# EAGLE library part STM32F405 (library OSURC_DigitalIC)
Fast little Cortex-M4 ARM used by everyone jumping on the custom flight control bandwagon.
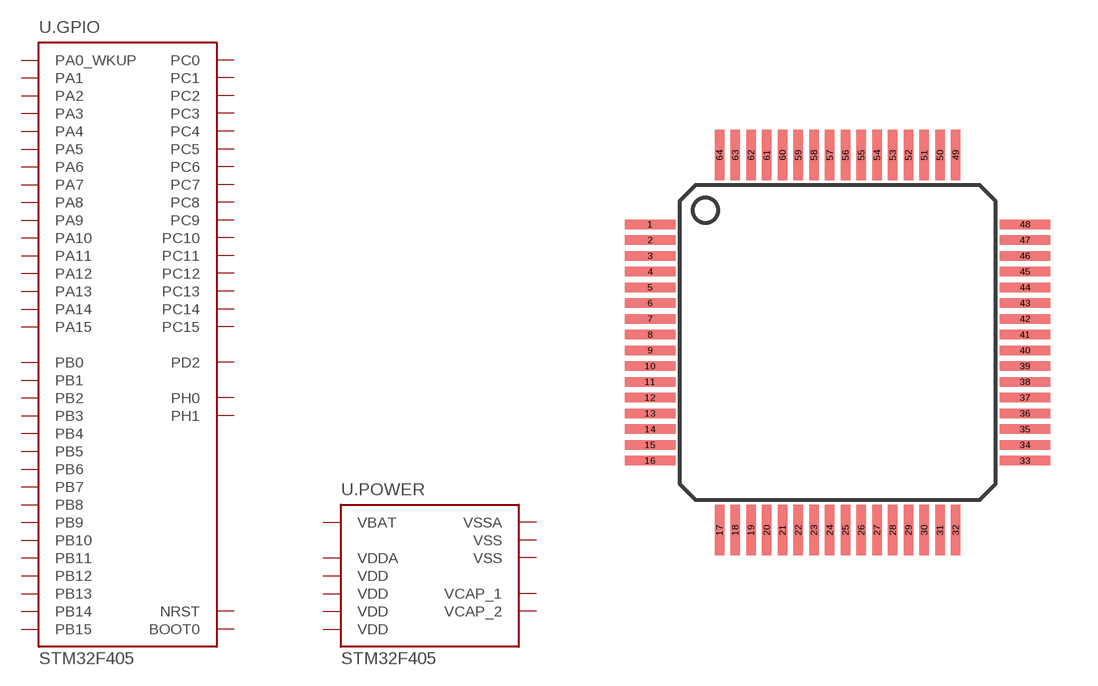
[diagram p0: symbol with the pads of LQFP-64-STM32F405; footprint LQFP-64-STM32F405]

Designator prefix U; gates .GPIO=STM32F405_GPIO .POWER=STM32F405_POWER

## STM32F405 (DIGIKEY_PN: 497-11767-ND)  [LQFP-64-STM32F405]
1  .POWER:VBAT  pwr
2  .GPIO:PC13
3  .GPIO:PC14
4  .GPIO:PC15
5  .GPIO:PH0
6  .GPIO:PH1
7  .GPIO:NRST
8  .GPIO:PC0
9  .GPIO:PC1
10  .GPIO:PC2
11  .GPIO:PC3
12  .POWER:VSSA  pwr
13  .POWER:VDDA  pwr
14  .GPIO:PA0_WKUP
15  .GPIO:PA1
16  .GPIO:PA2
17  .GPIO:PA3
18  .POWER:VSS  pwr
19  .POWER:VDD  pwr
20  .GPIO:PA4
21  .GPIO:PA5
22  .GPIO:PA6
23  .GPIO:PA7
24  .GPIO:PC4
25  .GPIO:PC5
26  .GPIO:PB0
27  .GPIO:PB1
28  .GPIO:PB2
29  .GPIO:PB10
30  .GPIO:PB11
31  .POWER:VCAP_1  pas
32  .POWER:VDD  pwr
33  .GPIO:PB12
34  .GPIO:PB13
35  .GPIO:PB14
36  .GPIO:PB15
37  .GPIO:PC6
38  .GPIO:PC7
39  .GPIO:PC8
40  .GPIO:PC9
41  .GPIO:PA8
42  .GPIO:PA9
43  .GPIO:PA10
44  .GPIO:PA11
45  .GPIO:PA12
46  .GPIO:PA13
47  .POWER:VCAP_2  pas
48  .POWER:VDD  pwr
49  .GPIO:PA14
50  .GPIO:PA15
51  .GPIO:PC10
52  .GPIO:PC11
53  .GPIO:PC12
54  .GPIO:PD2
55  .GPIO:PB3
56  .GPIO:PB4
57  .GPIO:PB5
58  .GPIO:PB6
59  .GPIO:PB7
60  .GPIO:BOOT0
61  .GPIO:PB8
62  .GPIO:PB9
63  .POWER:VSS  pwr
64  .POWER:VDD  pwr

## Footprint LQFP-64-STM32F405 (pad centres in mm)
smd 1.6 x 0.3: 1 -5.95,3.75; 2 -5.95,3.25; 3 -5.95,2.75; 4 -5.95,2.25; 5 -5.95,1.75; 6 -5.95,1.25; 7 -5.95,0.75; 8 -5.95,0.25; 9 -5.95,-0.25; 10 -5.95,-0.75; 11 -5.95,-1.25; 12 -5.95,-1.75; 13 -5.95,-2.25; 14 -5.95,-2.75; 15 -5.95,-3.25; 16 -5.95,-3.75; 33 5.95,-3.75; 34 5.95,-3.25; 35 5.95,-2.75; 36 5.95,-2.25; 37 5.95,-1.75; 38 5.95,-1.25; 39 5.95,-0.75; 40 5.95,-0.25; 41 5.95,0.25; 42 5.95,0.75; 43 5.95,1.25; 44 5.95,1.75; 45 5.95,2.25; 46 5.95,2.75; 47 5.95,3.25; 48 5.95,3.75
smd 0.3 x 1.6: 17 -3.75,-5.95; 18 -3.25,-5.95; 19 -2.75,-5.95; 20 -2.25,-5.95; 21 -1.75,-5.95; 22 -1.25,-5.95; 23 -0.75,-5.95; 24 -0.25,-5.95; 25 0.25,-5.95; 26 0.75,-5.95; 27 1.25,-5.95; 28 1.75,-5.95; 29 2.25,-5.95; 30 2.75,-5.95; 31 3.25,-5.95; 32 3.75,-5.95; 49 3.75,5.95; 50 3.25,5.95; 51 2.75,5.95; 52 2.25,5.95; 53 1.75,5.95; 54 1.25,5.95; 55 0.75,5.95; 56 0.25,5.95; 57 -0.25,5.95; 58 -0.75,5.95; 59 -1.25,5.95; 60 -1.75,5.95; 61 -2.25,5.95; 62 -2.75,5.95; 63 -3.25,5.95; 64 -3.75,5.95